# Altium schematic symbol library MC7805_5V_1A.Schlib: 1 symbol
Pins are listed as number, name and electrical type; pins without a type are passive.

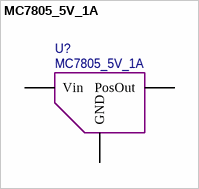
[diagram p0: symbol MC7805_5V_1A]

## MC7805_5V_1A
designator U?
pins: 1 Vin, 3 PosOut, 4 GND